# EAGLE library part BREADBOARD_POWER_V2 (library Breadboard_power)
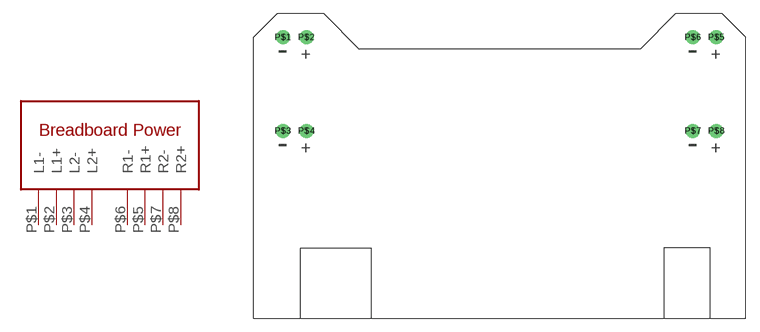
[diagram p1: symbol with the pads of BREADBOARD_POWER_V2; footprint BREADBOARD_POWER_V2]

Designator prefix -

## BREADBOARD_POWER_V2  [BREADBOARD_POWER_V2]
P$1  L1-
P$2  L1+
P$3  L2-
P$4  L2+
P$5  R1+
P$6  R1-
P$7  R2-
P$8  R2+

## Footprint BREADBOARD_POWER_V2 (pad centres in mm)
drill 1.016: P$1 3.175,30.48; P$2 5.715,30.48; P$3 3.175,20.32; P$4 5.715,20.32; P$5 50.165,30.48; P$6 47.625,30.48; P$7 47.625,20.32; P$8 50.165,20.32